# Altium schematic symbol library ICs-SerDes.SchLib: 1 symbol
Pins are listed as number, name and electrical type; pins without a type are passive.

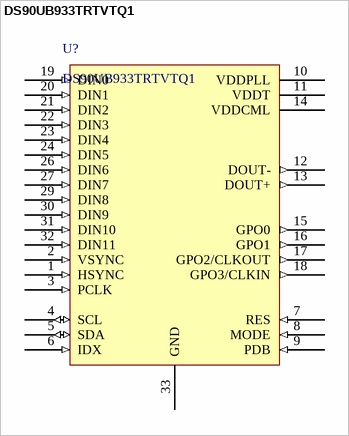
[diagram p0: symbol DS90UB933TRTVTQ1]

## DS90UB933TRTVTQ1
designator U?
Serializers & Deserializers - Serdes 12-bit 100 MHz FPD-Link III Serializer for 1MP/60fps and 2MP/30fps Cameras 32-WQFN -40 to 105; Manufacturer: Texas Instruments; PartNumber: DS90UB933TRTVTQ1; PackageReference: QFN-32; Mounting Technology: Surface Mount
footprint VQFN-32 (QFN, 32-Leads, Body 5x5mm, Pitch 0.5mm, Thermal Pad 3.45x3.45mm)
pins: 1 HSYNC (in), 2 VSYNC (in), 3 PCLK (in), 4 SCL (io), 5 SDA (io), 6 IDX (in), 7 RES (in), 8 MODE (in), 9 PDB (in), 10 VDDPLL (power), 11 VDDT (power), 12 DOUT- (out), 13 DOUT+ (out), 14 VDDCML (power), 15 GPO0 (out), 16 GPO1 (out), 17 GPO2/CLKOUT (out), 18 GPO3/CLKIN (out), 19 DIN0 (in), 20 DIN1 (in), 21 DIN2 (in), 22 DIN3 (in), 23 DIN4 (in), 24 DIN5 (in), 26 DIN6 (in), 27 DIN7 (in), 29 DIN8 (in), 30 DIN9 (in), 31 DIN10 (in), 32 DIN11 (in), 33 GND (power)